# EAGLE library part SI5481 (library NerduinoShieldLib)
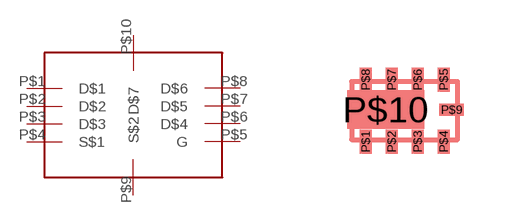
[diagram p7: symbol with the pads of SI5481; footprint SI5481]

Designator prefix -

## SI5481  [SI5481]
P$1  D$1
P$2  D$2
P$3  D$3
P$4  S$1
P$5  G
P$6  D$4
P$7  D$5
P$8  D$6
P$9  S$2
P$10  D$7

## Footprint SI5481 (pad centres in mm)
smd 0.305 x 0.61: P$1 0,0; P$2 0.65,0; P$3 1.3,0; P$4 1.95,0; P$5 1.95,1.55; P$6 1.3,1.55; P$7 0.65,1.55; P$8 0,1.55
smd 0.61 x 0.305: P$9 2.15,0.8
smd 1.93 x 0.965: P$10 0.5,0.8